# Altium schematic symbol library LMR36510.SchLib: 1 symbol
Pins are listed as number, name and electrical type; pins without a type are passive.

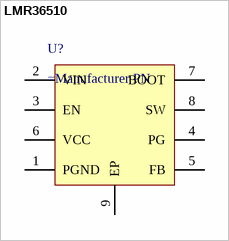
[diagram p0: symbol LMR36510]

## LMR36510
designator U?
TI Simple Switcher Synchronous Buck Regulator
pins: 1 PGND, 2 VIN, 3 EN, 4 PG, 5 FB, 6 VCC, 7 BOOT, 8 SW, 9 EP